# EAGLE library part TPS2560/1 (library Bat-Components)
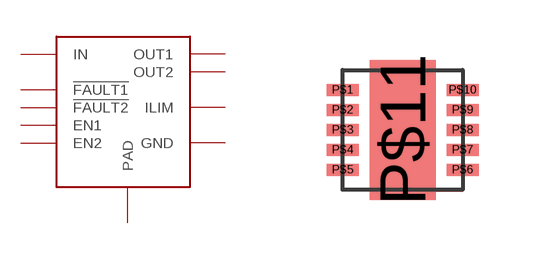
[diagram p18: symbol with the pads of DRC; footprint DRC]

Designator prefix -

## TPS2560/1  [DRC]
P$1  GND
P$2  IN
P$3  EN1
P$4  EN1
P$5  EN2
P$6  !FAULT2
P$7  ILIM
P$8  OUT2
P$9  OUT1
P$10  !FAULT1
P$11  PAD

## Footprint DRC (pad centres in mm)
smd 0.8 x 0.3: P$1 -1.5,1; P$2 -1.5,0.5; P$3 -1.5,0; P$4 -1.5,-0.5; P$5 -1.5,-1; P$6 1.5,-1; P$7 1.5,-0.5; P$8 1.5,0; P$9 1.5,0.5; P$10 1.5,1
smd 1.65 x 3.5: P$11 0,0